# EAGLE library part F52R-1A7H1-11008 (library F52R-1A7H1-11008)
Flex Connector, 1.00mm Pitch, Height 2.00mm, Right angle, Slider type, ZIF, Bottom contact, 8 position , Without MYLAR Source: Datasheet <https://cdn.amphenol-cs.com/media/wysiwyg/files/drawing/f52r.pdf>
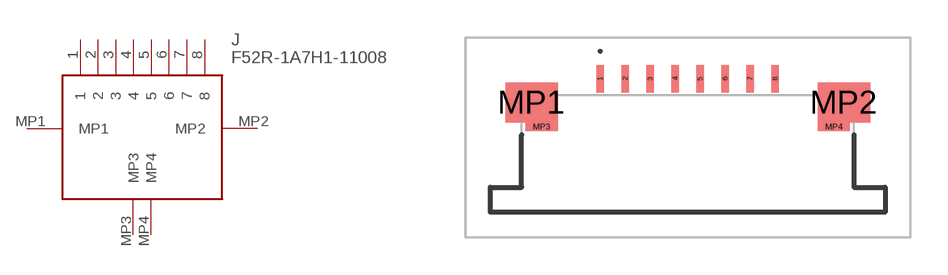
[diagram p0: symbol with the pads of F52R1A7H111008; footprint F52R1A7H111008]

Designator prefix J

## F52R-1A7H1-11008 (Description: Flex Connector, 1.00mm Pitch, Height 2.00mm, Right angle, Slider type, ZIF, Bottom contact, 8 position , Without MYLAR; Height: 2.25mm; Manufacturer_Name: Amphenol Communications Solutions; Manufacturer_Part_Number: F52R-1A7H1-11008; Mouser_Part_Number: 649-F52R-1A7H1-11008; Mouser_Price-Stock: https://www.mouser.co.uk/ProductDetail/Amphenol-Aorora/F52R-1A7H1-11008?qs=xZ%2FP%252Ba9zWqZEjx1hhk5Q2Q%3D%3D)  [F52R1A7H111008]
1  1
2  2
3  3
4  4
5  5
6  6
7  7
8  8
MP1  MP1
MP2  MP2
MP3  MP3
MP4  MP4

## Footprint F52R1A7H111008 (pad centres in mm)
F52R-1A7H1-11008-3
smd 0.3 x 1.1: 1 -3.5,3; 2 -2.5,3; 3 -1.5,3; 4 -0.5,3; 5 0.5,3; 6 1.5,3; 7 2.5,3; 8 3.5,3
smd 2.1 x 1.6: MP1 -6.25,2.05; MP2 6.25,2.05
smd 1.3 x 0.35: MP3 -5.85,1.075; MP4 5.85,1.075